# Altium footprint library TI_R-PDIP-T20.PcbLib: 1 footprints
Each footprint in its own frame and in the unit in brackets; x right, y up, seen from the top. Pads: shape width x height; smd on the part's side, far side on the other; paste and mask are expansions set on the pad; w line width, h text height; cw(c..) or ccw(c..) is an arc to the next point about the centre after c.
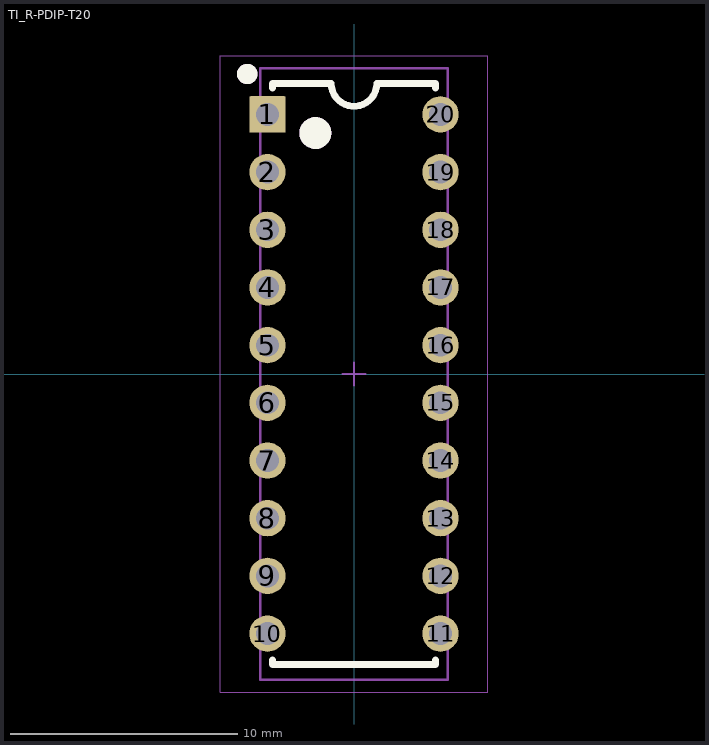
[diagram p0: the footprint, top view; thin cyan lines are the x and y axes]

## TI_R-PDIP-T20 [mm] "TI_R-PDIP-T20"
height 5.08
pads (20):
  rrect6% 1.6x1.6 hole 1 mask+0.05: 1(-3.81,11.43)
  round 1.6 hole 1 mask+0.05: 2(-3.81,8.89) 3(-3.81,6.35) 4(-3.81,3.81) 5(-3.81,1.27) 6(-3.81,-1.27) 7(-3.81,-3.81) 8(-3.81,-6.35) 9(-3.81,-8.89) 10(-3.81,-11.43) 11(3.81,-11.43) 12(3.81,-8.89) 13(3.81,-6.35) 14(3.81,-3.81) 15(3.81,-1.27) 16(3.81,1.27) 17(3.81,3.81) 18(3.81,6.35) 19(3.81,8.89) 20(3.81,11.43)
Top Overlay:
  circle w0.5: c-4.7,13.21 r0.2
  circle w0.8: c-1.7,10.61 r0.3
  lines w0.3: -3.595,-12.59 -3.595,-12.79 3.595,-12.79 3.595,-12.59 ; -3.595,12.59 -3.595,12.79 -1,12.79 ccw(c0,12.79) 1,12.79 3.595,12.79 3.595,12.59
Mechanical 13:
  circle w0.5: c-4.7,13.21 r0.2
  circle w0.8: c-1.7,10.61 r0.3
  lines w0.1: -4.13,-13.46 -4.13,13.46 4.13,13.46 4.13,-13.46 -4.13,-13.46
Mechanical 15:
  lines w0.05: -5.9,-14.01 5.9,-14.01 5.9,14.01 -5.9,14.01 -5.9,-14.01
  lines w0.1: -0.5,0 0.5,0 ; 0,-0.5 0,0.5
3D body "TI_R-PDIP-T20.stp": height 5.31, standoff -3.06, extent -3.937,-13.462 3.937,13.462